# EAGLE library part STM32L051K8T6 (library STM32L0xx)
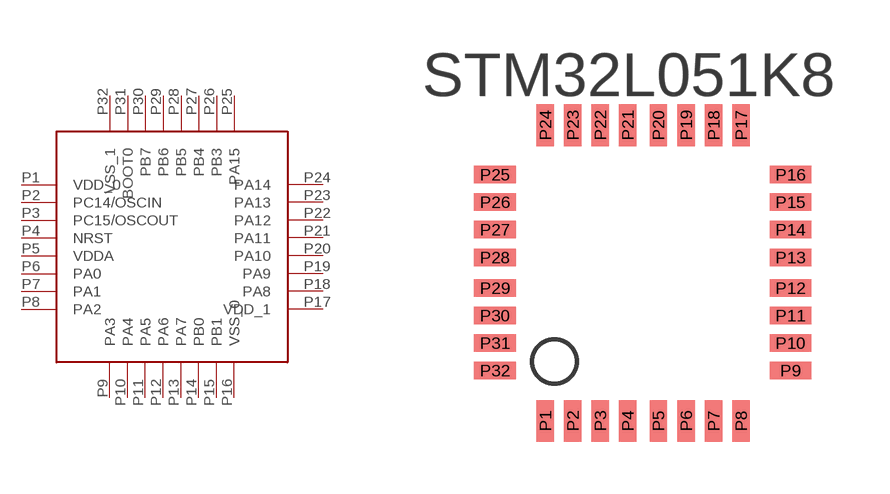
[diagram p0: symbol with the pads of LQFP32; footprint LQFP32]

Designator prefix -

## STM32L051K8T6  [LQFP32]
P1  VDD_0
P2  PC14/OSCIN
P3  PC15/OSCOUT
P4  NRST
P5  VDDA
P6  PA0
P7  PA1
P8  PA2
P9  PA3
P10  PA4
P11  PA5
P12  PA6
P13  PA7
P14  PB0
P15  PB1
P16  VSS_0
P17  VDD_1
P18  PA8
P19  PA9
P20  PA10
P21  PA11
P22  PA12
P23  PA13
P24  PA14
P25  PA15
P26  PB3
P27  PB4
P28  PB5
P29  PB6
P30  PB7
P31  BOOT0
P32  VSS_1

## Footprint LQFP32 (pad centres in mm)
smd 0.5 x 1.2: P1 -2.8,-4.25; P2 -2.01,-4.25; P3 -1.22,-4.25; P4 -0.43,-4.25; P5 0.45,-4.25; P6 1.25,-4.25; P7 2.04,-4.25; P8 2.83,-4.25; P17 2.83,4.25; P18 2.04,4.25; P19 1.25,4.25; P20 0.45,4.25; P21 -0.43,4.25; P22 -1.22,4.25; P23 -2.01,4.25; P24 -2.8,4.25
smd 1.2 x 0.5: P9 4.25,-2.8; P10 4.25,-2.01; P11 4.25,-1.22; P12 4.25,-0.43; P13 4.25,0.45; P14 4.25,1.25; P15 4.25,2.04; P16 4.25,2.83; P25 -4.25,2.83; P26 -4.25,2.04; P27 -4.25,1.25; P28 -4.25,0.45; P29 -4.25,-0.43; P30 -4.25,-1.22; P31 -4.25,-2.01; P32 -4.25,-2.8